# EAGLE library part TPS63020 (library OSSIdonghee)
TPS63020 HIGH EFFICIENCY SINGLE INDUCTOR BUCK-BOOST CONVERTER WITH 4-A SWITCHES from Texas Instruments
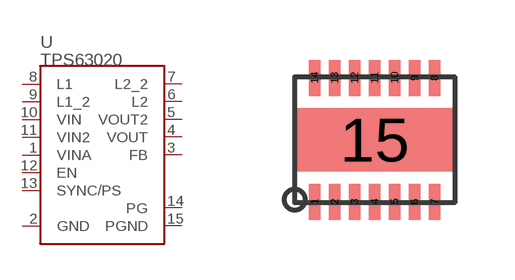
[diagram p4: symbol with the pads of VSON-14; footprint VSON-14]

Designator prefix U

## TPS63020  [VSON-14]
1  VINA
2  GND  sup
3  FB  in
4  VOUT  out
5  VOUT2  out
6  L2  in
7  L2_2  in
8  L1  in
9  L1_2  in
10  VIN  in
11  VIN2  in
12  EN  in
13  SYNC/PS  in
14  PG  out
15  PGND  sup

## Footprint VSON-14 (pad centres in mm)
place vias for the thermal pad. refer to datasheet!
smd 0.28 x 0.9: 1 -1.5,-1.55; 2 -1,-1.55; 3 -0.5,-1.55; 4 0,-1.55; 5 0.5,-1.55; 6 1,-1.55; 7 1.5,-1.55; 8 1.5,1.55; 9 1,1.55; 10 0.5,1.55; 11 0,1.55; 12 -0.5,1.55; 13 -1,1.55; 14 -1.5,1.55
smd 4 x 1.58: 15 0,0